# EAGLE library part 5-103904-5 (library con-amp-mte)
HEADER
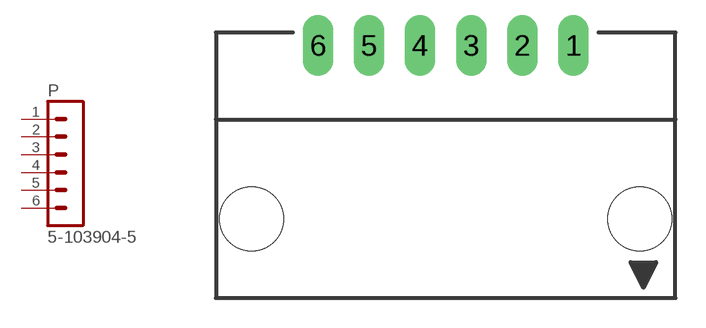
[diagram p0: symbol with the pads of 5-103904-5; footprint 5-103904-5]

Designator prefix P

## 5-103904-5  [5-103904-5]
1  1  pas
2  2  pas
3  3  pas
4  4  pas
5  5  pas
6  6  pas

## Footprint 5-103904-5 (pad centres in mm)
HEADER
drill 1.016 long: 1 6.35,0; 2 3.81,0; 3 1.27,0; 4 -1.27,0; 5 -3.81,0; 6 -6.35,0
hole 3.175 at -9.652,-8.636
hole 3.175 at 9.652,-8.636